# EAGLE library part OPA2347 (library OSSI)
OPA2347 RAIL-TO-RAIL INPUT AND OUTPUT SINGLE SUPPLY: 2.3V to 5.5V LOW IQ: 20µ
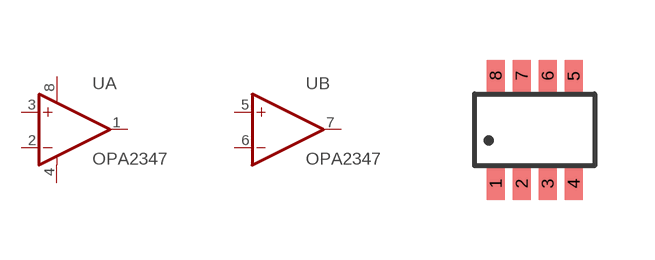
[diagram p27: symbol with the pads of SOT23-8DCN; footprint SOT23-8DCN]

Designator prefix U; gates A=OPAMP+- B=OPAMP

## OPA2347  [SOT23-8DCN]
1  A:OUT  out
2  A:-IN  in
3  A:+IN  in
4  A:V-  pwr
5  B:+IN  in
6  B:-IN  in
7  B:OUT  out
8  A:V+  pwr

## Footprint SOT23-8DCN (pad centres in mm)
smd 0.45 x 0.8: 1 -0.975,-1.35; 2 -0.325,-1.35; 3 0.325,-1.35; 4 0.975,-1.35; 5 0.975,1.35; 6 0.325,1.35; 7 -0.325,1.35; 8 -0.975,1.35